# Altium schematic symbol library Common.SchLib: 59 symbols
Pins are listed as number, name and electrical type; pins without a type are passive.

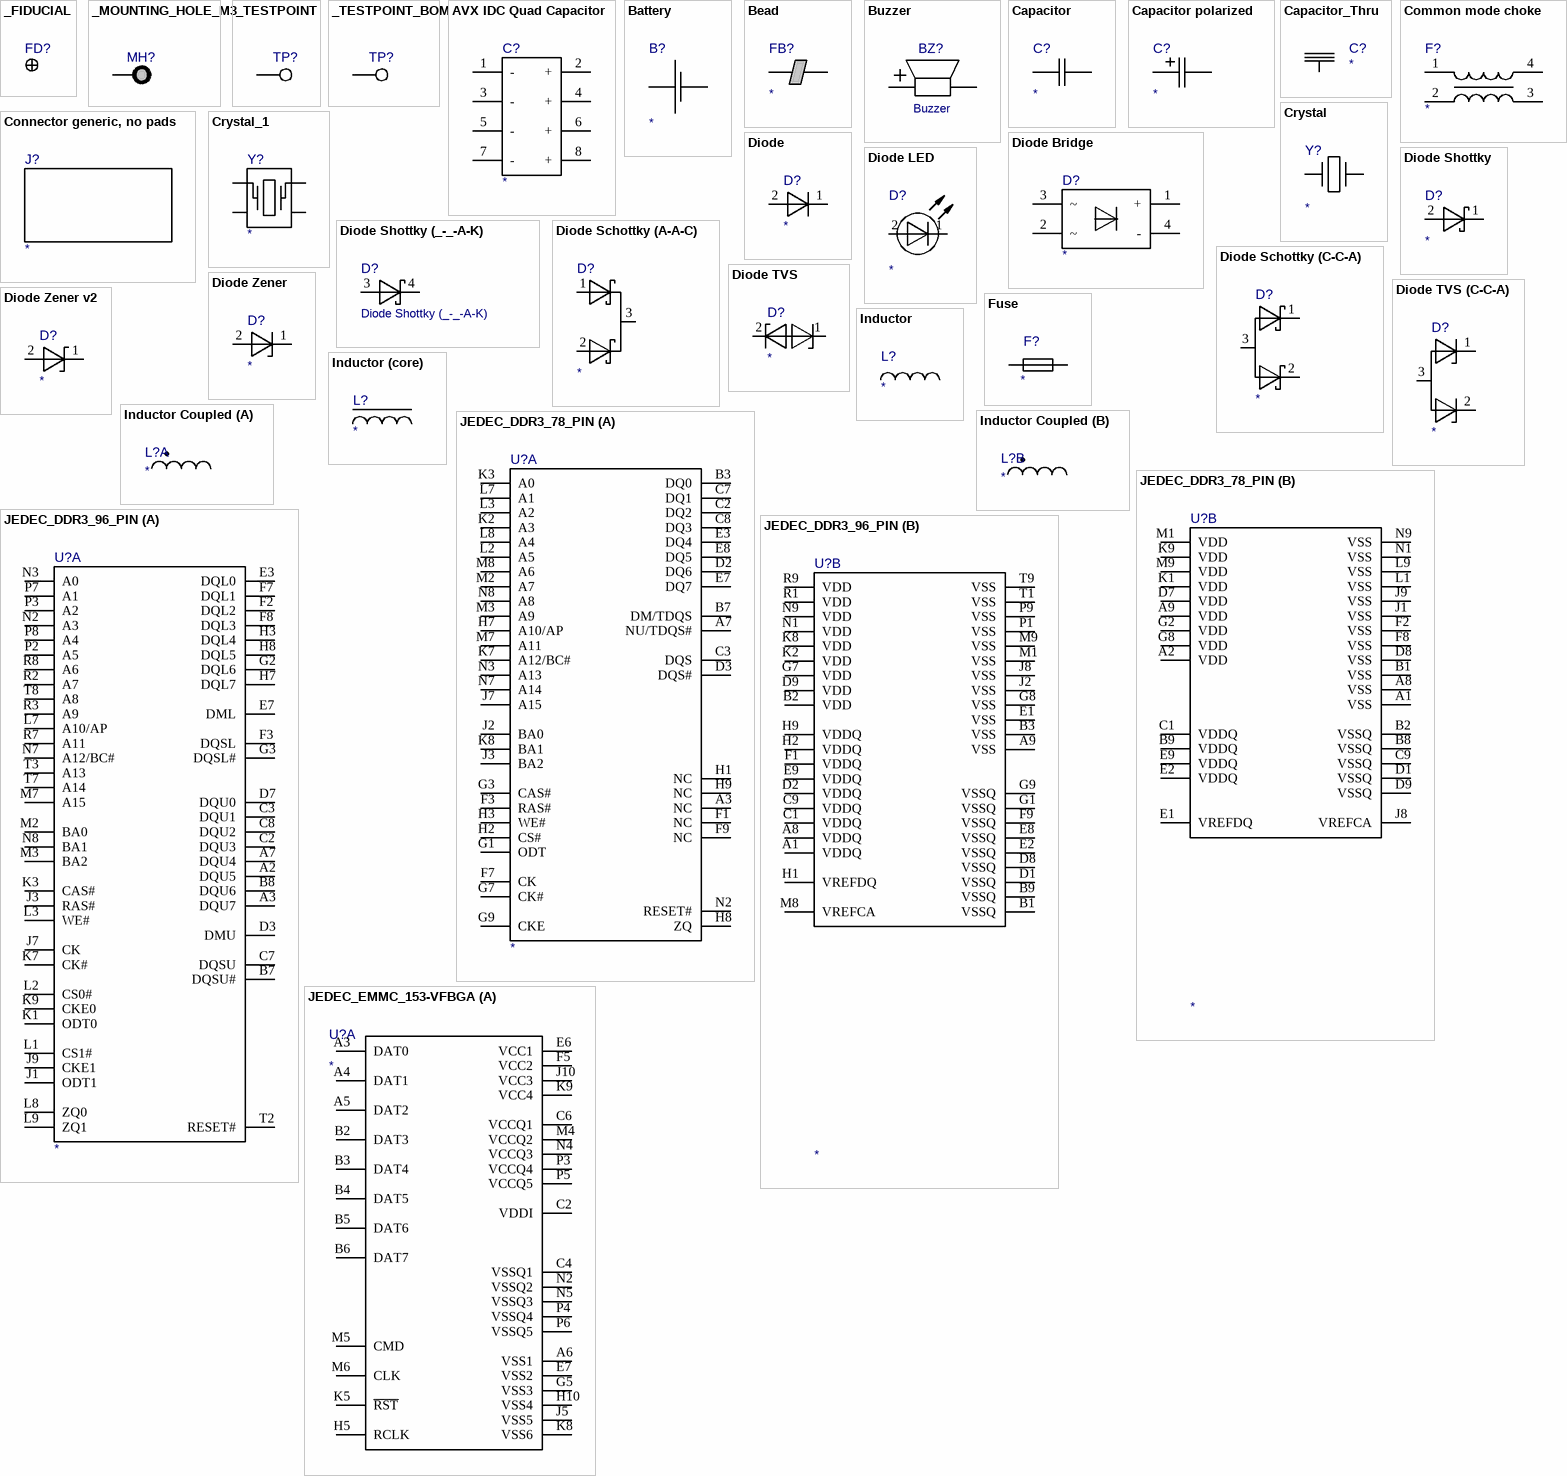
[diagram p0: symbols _FIDUCIAL to JEDEC_EMMC_153-VFBGA]

## _FIDUCIAL
designator FD?  (value not drawn)  (no BOM)

## _MOUNTING_HOLE_M3
designator MH?  (value not drawn)  (no BOM)
pins: MH

## _TESTPOINT
designator TP?  (value not drawn)  (no BOM)
pins: 1

## _TESTPOINT_BOM
designator TP?  (value not drawn)
pins: 1

## AVX IDC Quad Capacitor
designator C?
pins: 1 -, 2 +, 3 -, 4 +, 5 -, 6 +, 7 -, 8 +

## Battery
designator B?
pins: 1, 2

## Bead
designator FB?
pins: 1, 2

## Buzzer
designator BZ?
pins: 1 +, 2 -

## Capacitor
designator C?
pins: 1, 2

## Capacitor polarized
designator C?
pins: 1 -, 2 +

## Capacitor_Thru
designator C?
pins: 1, 2, 3

## Common mode choke
designator F?
pins: 1, 2, 3, 4

## Connector generic, no pads
designator J?

## Crystal
designator Y?
pins: 1, 2

## Crystal_1
designator Y?
pins: 1, 2, 3, 4

## Diode
designator D?
pins: 1 C, 2 A

## Diode Bridge
designator D?
pins: 1 +, 2 ~, 3 ~, 4 -

## Diode LED
designator D?
pins: 1 C, 2 A

## Diode Shottky
designator D?
pins: 1 C, 2 A

## Diode Shottky (_-_-A-K)
designator D?
pins: 3 A, 4 C

## Diode Sсhottky (A-A-C)
designator D?
pins: 1 C, 2 C, 3 A

## Diode Sсhottky (C-C-A)
designator D?
pins: 1 C, 2 C, 3 A

## Diode TVS
designator D?
pins: 1 C, 2 A

## Diode TVS (C-C-A)
designator D?
pins: 1 C, 2 C, 3 A

## Diode Zener
designator D?
pins: 1 C, 2 A

## Diode Zener v2
designator D?
pins: 1 C, 2 A

## Fuse
designator F?
pins: 1, 2

## Inductor
designator L?
pins: 1, 2

## Inductor (core)
designator L?
pins: 1, 2

## Inductor Coupled
designator L?
part A pins: 1, 4
part B pins: 2, 3

## JEDEC_DDR3_78_PIN
designator U?
part A pins: A3 NC, A7 NU/TDQS#, B3 DQ0, B7 DM/TDQS, C2 DQ2, C3 DQS, C7 DQ1, C8 DQ3, D2 DQ6, D3 DQS#, E3 DQ4, E7 DQ7, E8 DQ5, F1 NC, F3 RAS#, F7 CK, F9 NC, G1 ODT, G3 CAS#, G7 CK#, G9 CKE, H1 NC, H2 CS#, H3 WE#, H7 A10/AP, H8 ZQ, H9 NC, J2 BA0, J3 BA2, J7 A15, K2 A3, K3 A0, K7 A12/BC#, K8 BA1, L2 A5, L3 A2, L7 A1, L8 A4, M2 A7, M3 A9, M7 A11, M8 A6, N2 RESET#, N3 A13, N7 A14, N8 A8
part B pins: A1 VSS, A2 VDD, A8 VSS, A9 VDD, B1 VSS, B2 VSSQ, B8 VSSQ, B9 VDDQ, C1 VDDQ, C9 VSSQ, D1 VSSQ, D7 VDD, D8 VSS, D9 VSSQ, E1 VREFDQ, E2 VDDQ, E9 VDDQ, F2 VSS, F8 VSS, G2 VDD, G8 VDD, J1 VSS, J8 VREFCA, J9 VSS, K1 VDD, K9 VDD, L1 VSS, L9 VSS, M1 VDD, M9 VDD, N1 VSS, N9 VSS

## JEDEC_DDR3_96_PIN
designator U?
part A pins: A2 DQU5, A3 DQU7, A7 DQU4, B7 DQSU#, B8 DQU6, C2 DQU3, C3 DQU1, C7 DQSU, C8 DQU2, D3 DMU, D7 DQU0, E3 DQL0, E7 DML, F2 DQL2, F3 DQSL, F7 DQL1, F8 DQL3, G2 DQL6, G3 DQSL#, H3 DQL4, H7 DQL7, H8 DQL5, J1 ODT1, J3 RAS#, J7 CK, J9 CKE1, K1 ODT0, K3 CAS#, K7 CK#, K9 CKE0, L1 CS1#, L2 CS0#, L3 WE#, L7 A10/AP, L8 ZQ0, L9 ZQ1, M2 BA0, M3 BA2, M7 A15, N2 A3, N3 A0, N7 A12/BC#, N8 BA1, P2 A5, P3 A2, P7 A1, P8 A4, R2 A7, R3 A9, R7 A11, R8 A6, T2 RESET#, T3 A13, T7 A14, T8 A8
part B pins: A1 VDDQ, A8 VDDQ, A9 VSS, B1 VSSQ, B2 VDD, B3 VSS, B9 VSSQ, C1 VDDQ, C9 VDDQ, D1 VSSQ, D2 VDDQ, D8 VSSQ, D9 VDD, E1 VSS, E2 VSSQ, E8 VSSQ, E9 VDDQ, F1 VDDQ, F9 VSSQ, G1 VSSQ, G7 VDD, G8 VSS, G9 VSSQ, H1 VREFDQ, H2 VDDQ, H9 VDDQ, J2 VSS, J8 VSS, K2 VDD, K8 VDD, M1 VSS, M8 VREFCA, M9 VSS, N1 VDD, N9 VDD, P1 VSS, P9 VSS, R1 VDD, R9 VDD, T1 VSS, T9 VSS

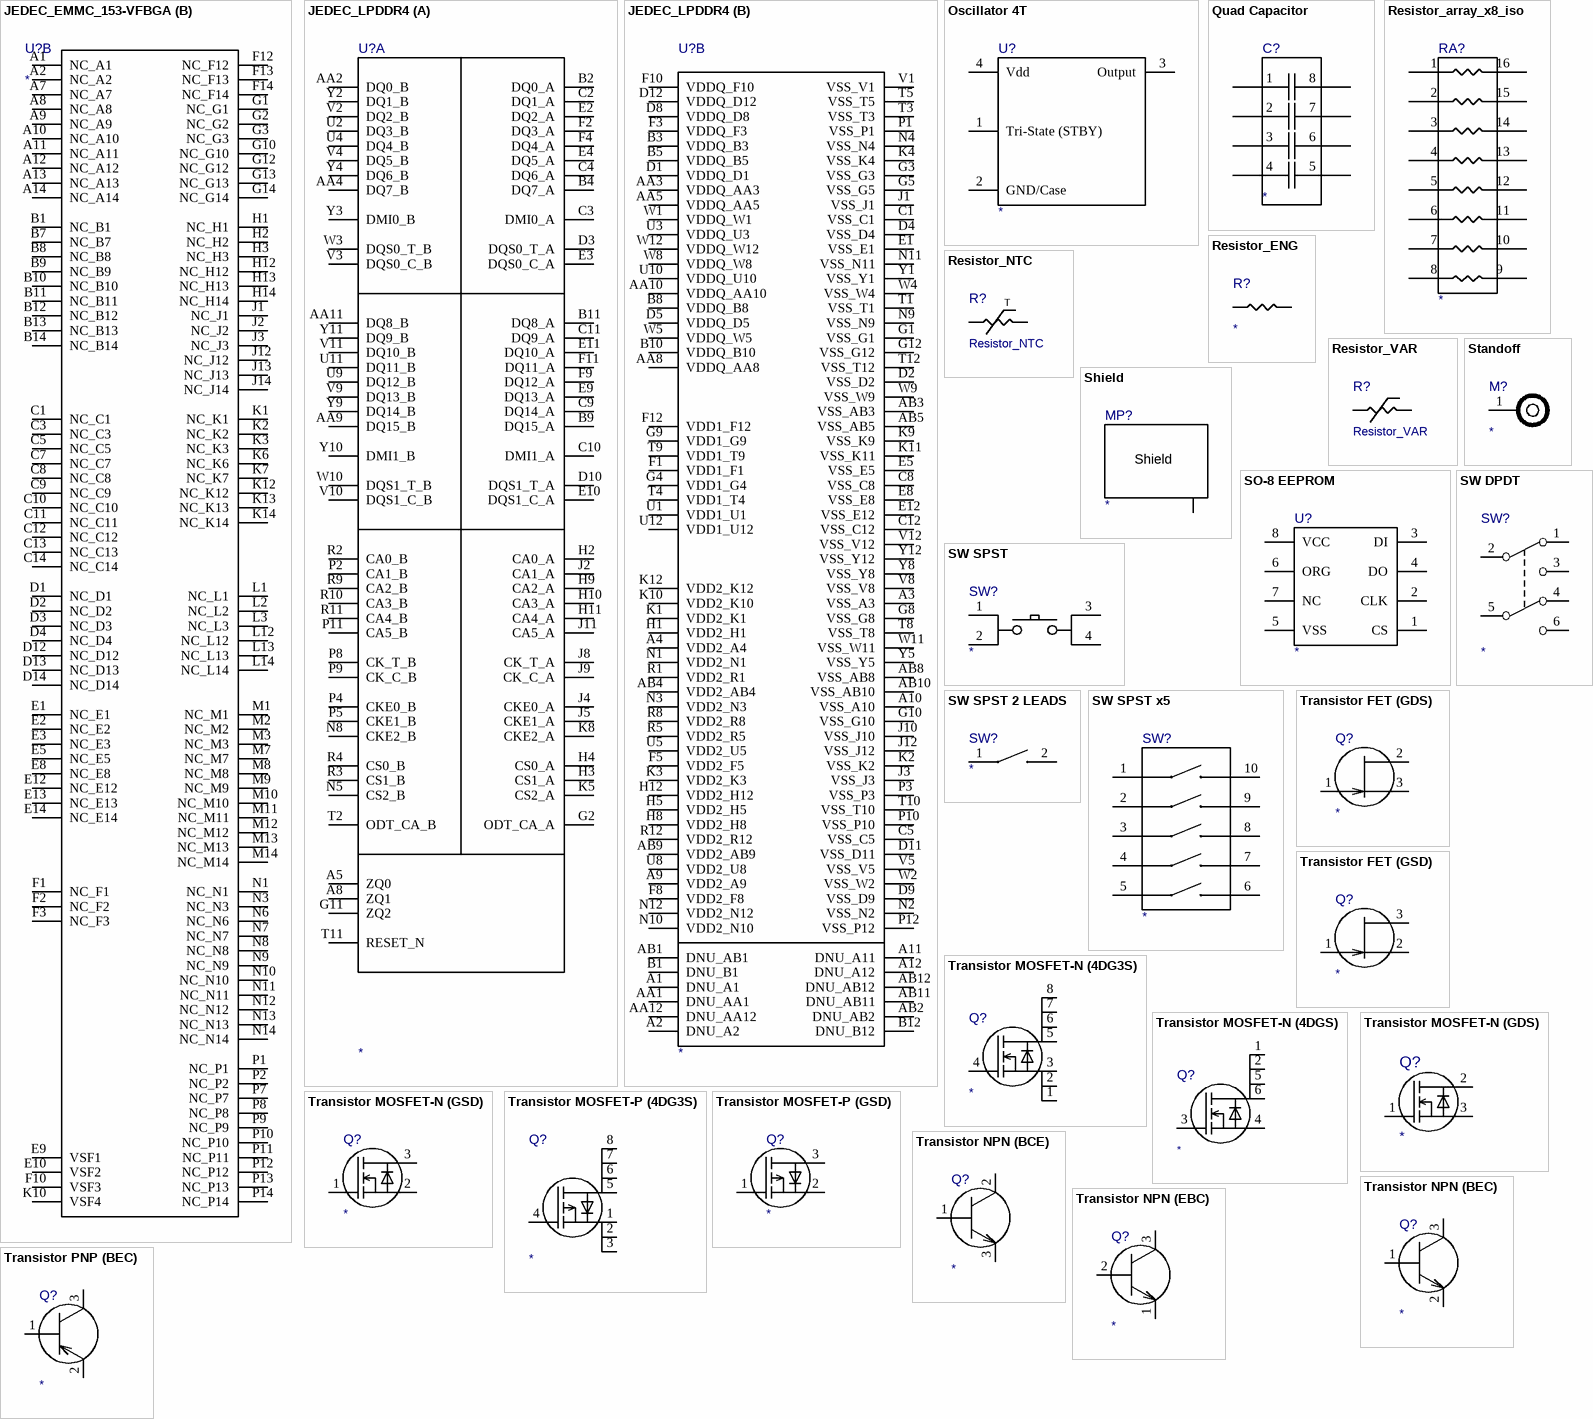
[diagram p1: symbols JEDEC_EMMC_153-VFBGA to Transistor PNP (BEC)]

## JEDEC_EMMC_153-VFBGA
designator U?
part A pins: A3 DAT0, A4 DAT1, A5 DAT2, A6 VSS1, B2 DAT3, B3 DAT4, B4 DAT5, B5 DAT6, B6 DAT7, C2 VDDI, C4 VSSQ1, C6 VCCQ1, E6 VCC1, E7 VSS2, F5 VCC2, G5 VSS3, H5 RCLK, H10 VSS4, J5 VSS5, J10 VCC3, K5 ~{RST}, K8 VSS6, K9 VCC4, M4 VCCQ2, M5 CMD, M6 CLK, N2 VSSQ2, N4 VCCQ3, N5 VSSQ3, P3 VCCQ4, P4 VSSQ4, P5 VCCQ5, P6 VSSQ5
part B pins: A1 NC_A1, A2 NC_A2, A7 NC_A7, A8 NC_A8, A9 NC_A9, A10 NC_A10, A11 NC_A11, A12 NC_A12, A13 NC_A13, A14 NC_A14, B1 NC_B1, B7 NC_B7, B8 NC_B8, B9 NC_B9, B10 NC_B10, B11 NC_B11, B12 NC_B12, B13 NC_B13, B14 NC_B14, C1 NC_C1, C3 NC_C3, C5 NC_C5, C7 NC_C7, C8 NC_C8, C9 NC_C9, C10 NC_C10, C11 NC_C11, C12 NC_C12, C13 NC_C13, C14 NC_C14, D1 NC_D1, D2 NC_D2, D3 NC_D3, D4 NC_D4, D12 NC_D12, D13 NC_D13, D14 NC_D14, E1 NC_E1, E2 NC_E2, E3 NC_E3, E5 NC_E5, E8 NC_E8, E9 VSF1, E10 VSF2, E12 NC_E12, E13 NC_E13, E14 NC_E14, F1 NC_F1, F2 NC_F2, F3 NC_F3, F10 VSF3, F12 NC_F12, F13 NC_F13, F14 NC_F14, G1 NC_G1, G2 NC_G2, G3 NC_G3, G10 NC_G10, G12 NC_G12, G13 NC_G13, G14 NC_G14, H1 NC_H1, H2 NC_H2, H3 NC_H3, H12 NC_H12, H13 NC_H13, H14 NC_H14, J1 NC_J1, J2 NC_J2, J3 NC_J3, J12 NC_J12, J13 NC_J13, J14 NC_J14, K1 NC_K1, K2 NC_K2, K3 NC_K3, K6 NC_K6, K7 NC_K7, K10 VSF4, K12 NC_K12, K13 NC_K13, K14 NC_K14, L1 NC_L1, L2 NC_L2, L3 NC_L3, L12 NC_L12, L13 NC_L13, L14 NC_L14, M1 NC_M1, M2 NC_M2, M3 NC_M3, M7 NC_M7, M8 NC_M8, M9 NC_M9, M10 NC_M10, M11 NC_M11, M12 NC_M12, M13 NC_M13, M14 NC_M14, N1 NC_N1, N3 NC_N3, N6 NC_N6, N7 NC_N7, N8 NC_N8, N9 NC_N9, N10 NC_N10, N11 NC_N11, N12 NC_N12, N13 NC_N13, N14 NC_N14, P1 NC_P1, P2 NC_P2, P7 NC_P7, P8 NC_P8, P9 NC_P9, P10 NC_P10, P11 NC_P11, P12 NC_P12, P13 NC_P13, P14 NC_P14

## JEDEC_LPDDR4
designator U?
part A pins: A5 ZQ0, A8 ZQ1, AA2 DQ0_B, AA4 DQ7_B, AA9 DQ15_B, AA11 DQ8_B, B2 DQ0_A, B4 DQ7_A, B9 DQ15_A, B11 DQ8_A, C2 DQ1_A, C3 DMI0_A, C4 DQ6_A, C9 DQ14_A, C10 DMI1_A, C11 DQ9_A, D3 DQS0_T_A, D10 DQS1_T_A, E2 DQ2_A, E3 DQS0_C_A, E4 DQ5_A, E9 DQ13_A, E10 DQS1_C_A, E11 DQ10_A, F2 DQ3_A, F4 DQ4_A, F9 DQ12_A, F11 DQ11_A, G2 ODT_CA_A, G11 ZQ2, H2 CA0_A, H3 CS1_A, H4 CS0_A, H9 CA2_A, H10 CA3_A, H11 CA4_A, J2 CA1_A, J4 CKE0_A, J5 CKE1_A, J8 CK_T_A, J9 CK_C_A, J11 CA5_A, K5 CS2_A, K8 CKE2_A, N5 CS2_B, N8 CKE2_B, P2 CA1_B, P4 CKE0_B, P5 CKE1_B, P8 CK_T_B, P9 CK_C_B, P11 CA5_B, R2 CA0_B, R3 CS1_B, R4 CS0_B, R9 CA2_B, R10 CA3_B, R11 CA4_B, T2 ODT_CA_B, T11 RESET_N, U2 DQ3_B, U4 DQ4_B, U9 DQ12_B, U11 DQ11_B, V2 DQ2_B, V3 DQS0_C_B, V4 DQ5_B, V9 DQ13_B, V10 DQS1_C_B, V11 DQ10_B, W3 DQS0_T_B, W10 DQS1_T_B, Y2 DQ1_B, Y3 DMI0_B, Y4 DQ6_B, Y9 DQ14_B, Y10 DMI1_B, Y11 DQ9_B
part B pins: A1 DNU_A1, A2 DNU_A2, A3 VSS_A3, A4 VDD2_A4, A9 VDD2_A9, A10 VSS_A10, A11 DNU_A11, A12 DNU_A12, AA1 DNU_AA1, AA3 VDDQ_AA3, AA5 VDDQ_AA5, AA8 VDDQ_AA8, AA10 VDDQ_AA10, AA12 DNU_AA12, AB1 DNU_AB1, AB2 DNU_AB2, AB3 VSS_AB3, AB4 VDD2_AB4, AB5 VSS_AB5, AB8 VSS_AB8, AB9 VDD2_AB9, AB10 VSS_AB10, AB11 DNU_AB11, AB12 DNU_AB12, B1 DNU_B1, B3 VDDQ_B3, B5 VDDQ_B5, B8 VDDQ_B8, B10 VDDQ_B10, B12 DNU_B12, C1 VSS_C1, C5 VSS_C5, C8 VSS_C8, C12 VSS_C12, D1 VDDQ_D1, D2 VSS_D2, D4 VSS_D4, D5 VDDQ_D5, D8 VDDQ_D8, D9 VSS_D9, D11 VSS_D11, D12 VDDQ_D12, E1 VSS_E1, E5 VSS_E5, E8 VSS_E8, E12 VSS_E12, F1 VDD1_F1, F3 VDDQ_F3, F5 VDD2_F5, F8 VDD2_F8, F10 VDDQ_F10, F12 VDD1_F12, G1 VSS_G1, G3 VSS_G3, G4 VDD1_G4, G5 VSS_G5, G8 VSS_G8, G9 VDD1_G9, G10 VSS_G10, G12 VSS_G12, H1 VDD2_H1, H5 VDD2_H5, H8 VDD2_H8, H12 VDD2_H12, J1 VSS_J1, J3 VSS_J3, J10 VSS_J10, J12 VSS_J12, K1 VDD2_K1, K2 VSS_K2, K3 VDD2_K3, K4 VSS_K4, K9 VSS_K9, K10 VDD2_K10, K11 VSS_K11, K12 VDD2_K12, N1 VDD2_N1, N2 VSS_N2, N3 VDD2_N3, N4 VSS_N4, N9 VSS_N9, N10 VDD2_N10, N11 VSS_N11, N12 VDD2_N12, P1 VSS_P1, P3 VSS_P3, P10 VSS_P10, P12 VSS_P12, R1 VDD2_R1, R5 VDD2_R5, R8 VDD2_R8, R12 VDD2_R12, T1 VSS_T1, T3 VSS_T3, T4 VDD1_T4, T5 VSS_T5, T8 VSS_T8, T9 VDD1_T9, T10 VSS_T10, T12 VSS_T12, U1 VDD1_U1, U3 VDDQ_U3, U5 VDD2_U5, U8 VDD2_U8, U10 VDDQ_U10, U12 VDD1_U12, V1 VSS_V1, V5 VSS_V5, V8 VSS_V8, V12 VSS_V12, W1 VDDQ_W1, W2 VSS_W2, W4 VSS_W4, W5 VDDQ_W5, W8 VDDQ_W8, W9 VSS_W9, W11 VSS_W11, W12 VDDQ_W12, Y1 VSS_Y1, Y5 VSS_Y5, Y8 VSS_Y8, Y12 VSS_Y12

## Oscillator 4T
designator U?
pins: 1 Tri-State (STBY), 2 GND/Case, 3 Output, 4 Vdd

## Quad Capacitor
designator C?
pins: 1 -, 2 +, 3 -, 4 +, 5 -, 6 +, 7 -, 8 +

## Resistor_array_x8_iso
designator RA?
pins: 1, 2, 3, 4, 5, 6, 7, 8, 9, 10, 11, 12, 13, 14, 15, 16

## Resistor_ENG
designator R?
pins: 1, 2

## Resistor_NTC
designator R?
pins: 1, 2
text: T

## Resistor_VAR
designator R?
pins: 1, 2

## Shield
designator MP?
pins: 0

## SO-8 EEPROM
designator U?
pins: 1 CS, 2 CLK, 3 DI, 4 DO, 5 VSS, 6 ORG, 7 NC, 8 VCC

## Standoff
designator M?
pins: 1

## SW DPDT
designator SW?
pins: 1 NC1, 2 COMMON1, 3 NO1, 4 NC2, 5 COMMON2, 6 NO2

## SW SPST
designator SW?
pins: 1, 2, 3, 4

## SW SPST 2 LEADS
designator SW?
pins: 1, 2

## SW SPST x5
designator SW?
pins: 1, 2, 3, 4, 5, 6, 7, 8, 9, 10

## Transistor FET (GDS)
designator Q?
pins: 1 G, 2 D, 3 S

## Transistor FET (GSD)
designator Q?
pins: 1 G, 2 S, 3 D

## Transistor MOSFET-N (4DG3S)
designator Q?
pins: 1 D, 2 D, 3 S, 4 G, 5 D, 6 D, 7 D, 8 D

## Transistor MOSFET-N (4DGS)
designator Q?
pins: 1 D, 2 D, 3 G, 4 S, 5 D, 6 D

## Transistor MOSFET-N (GDS)
designator Q?
pins: 1 G, 2 D, 3 S

## Transistor MOSFET-N (GSD)
designator Q?
pins: 1 G, 2 S, 3 D

## Transistor MOSFET-P (4DG3S)
designator Q?
pins: 1 S, 2 S, 3 S, 4 G, 5 D, 6 D, 7 D, 8 D

## Transistor MOSFET-P (GSD)
designator Q?
pins: 1 G, 2 S, 3 D

## Transistor NPN (BCE)
designator Q?
pins: 1 B, 2 C, 3 E

## Transistor NPN (BEC)
designator Q?
pins: 1 B, 2 E, 3 C

## Transistor NPN (EBC)
designator Q?
pins: 1 E, 2 B, 3 C

## Transistor PNP (BEC)
designator Q?
pins: 1 B, 2 E, 3 C